# EAGLE library part TB0918110-10POL (library 1A-meinLib)
Schneidklemmverbinder für PCB, 10-pol, SEK18 Typ TB0918110 9622, Harting. Bürklin 53F3464
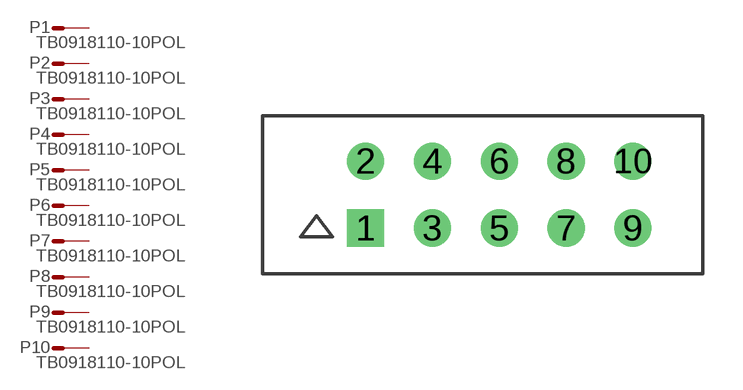
[diagram p189: symbol with the pads of TB0918110-10POL; footprint TB0918110-10POL]

Designator prefix P; gates 1=M-1 2=M-1 3=M-1 4=M-1 5=M-1 6=M-1 7=M-1 8=M-1 9=M-1 10=M-1

## TB0918110-10POL  [TB0918110-10POL]
1  1:S  pas
2  2:S  pas
3  3:S  pas
4  4:S  pas
5  5:S  pas
6  6:S  pas
7  7:S  pas
8  8:S  pas
9  9:S  pas
10  10:S  pas

## Footprint TB0918110-10POL (pad centres in mm)
drill 0.9 square: 1 -3.81,-1.27
drill 0.9 round: 2 -3.81,1.27; 3 -1.27,-1.27; 4 -1.27,1.27; 5 1.27,-1.27; 6 1.27,1.27; 7 3.81,-1.27; 8 3.81,1.27; 9 6.35,-1.27; 10 6.35,1.27